# EAGLE library part 418121270812 (library Switches_rev16a)
WS-DISV SMD version raise actuator without top tape sealed Specification Contact Rating Switching :25mA, 24VDC Non-Switching : 100mA, 50VDC Contact Resistance Initial: 50mΩ max. After life test: 100mΩ max. Insulation Resistance: min.100MΩ at 500VDC Dielectric Strength : 500VAC for 1 minute Operation Force :600g max. Mechanical Life : 2000 cycles Electrical Life : 2000 cycles / 25mA, 24VDC Raise Actuator type Material Cover : : PA9T UL 94 V-0, color Black Base :PA9T UL 94 V-0, color Black. Actuator :PA46 UL 94 V-0, color White Contact : : Gold Plated Terminal : Gold Plated Created on 2015-10-21 2015 (C) Wurth Elektronik
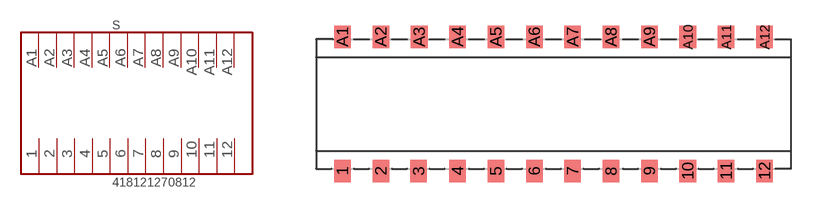
[diagram p180: symbol with the pads of 418121270812; footprint 418121270812]

Designator prefix S

## 418121270812  [418121270812]
1  1  pas
2  2  pas
3  3  pas
4  4  pas
5  5  pas
6  6  pas
7  7  pas
8  8  pas
9  9  pas
10  10  pas
11  11  pas
12  12  pas
A1  A1  pas
A2  A2  pas
A3  A3  pas
A4  A4  pas
A5  A5  pas
A6  A6  pas
A7  A7  pas
A8  A8  pas
A9  A9  pas
A10  A10  pas
A11  A11  pas
A12  A12  pas

## Footprint 418121270812 (pad centres in mm)
smd 1.1 x 1.5: 1 -13.97,-4.45; 2 -11.43,-4.45; 3 -8.925,-4.45; 4 -6.35,-4.45; 5 -3.81,-4.45; 6 -1.27,-4.45; 7 1.27,-4.45; 8 3.81,-4.45; 9 6.35,-4.45; 10 8.89,-4.45; 11 11.43,-4.45; 12 13.97,-4.45; A1 -13.97,4.45; A2 -11.43,4.45; A3 -8.89,4.45; A4 -6.35,4.45; A5 -3.81,4.45; A6 -1.27,4.45; A7 1.27,4.45; A8 3.81,4.45; A9 6.35,4.45; A10 8.89,4.45; A11 11.43,4.45; A12 13.97,4.45